# EAGLE library part CC3100R11MRGC (library Common-Parts-Library-Eagle)
CC3100 SimpleLink Wi-Fi and Internet-of-Things solution for MCU Applications 64-VQFN -40 to 85
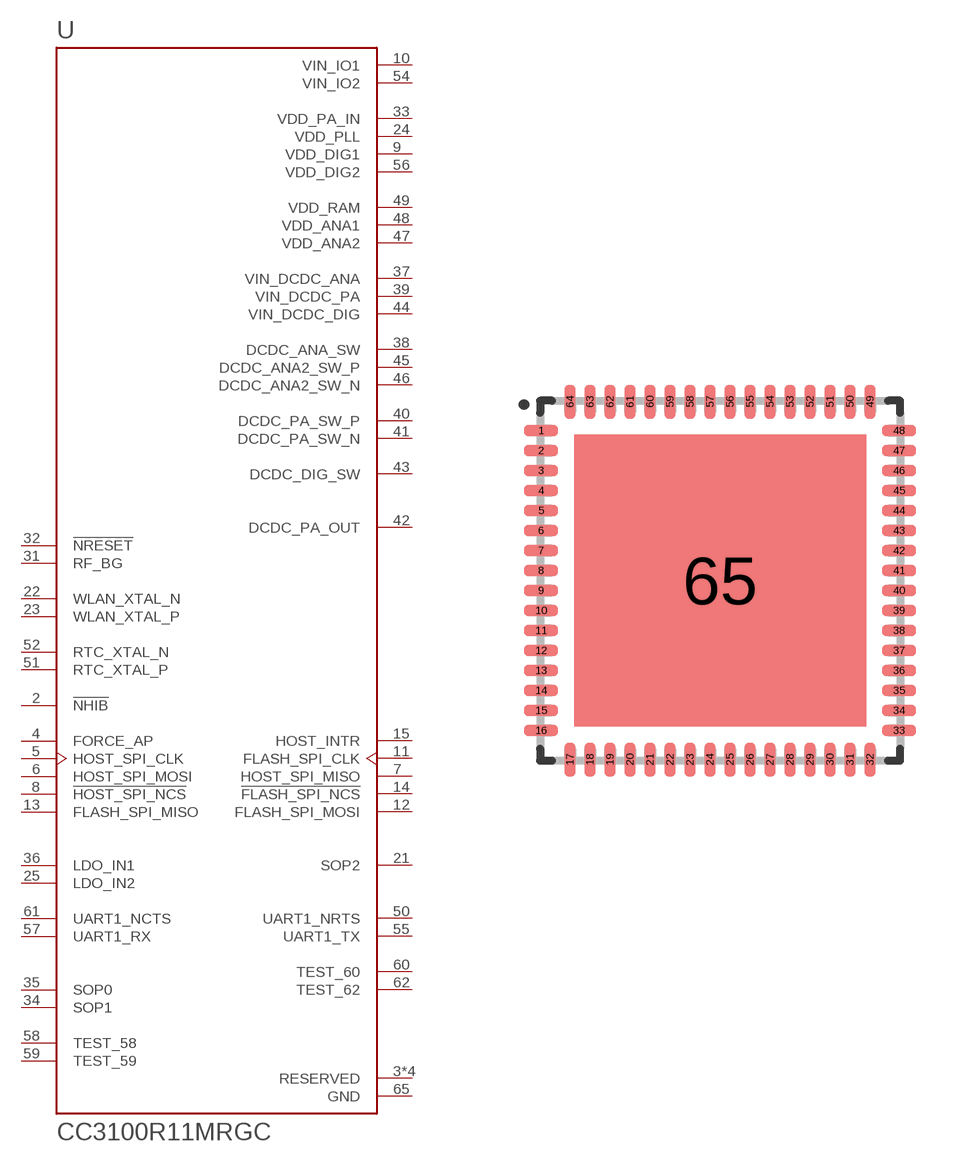
[diagram p53: symbol with the pads of CC3100R11MRGC_QFN50P900X900X100-65N; footprint CC3100R11MRGC_QFN50P900X900X100-65N]

Designator prefix U

## CC3100R11MRGC (MANUFACTURER: Texas Instruments)  [CC3100R11MRGC_QFN50P900X900X100-65N]
2  !NHIB  in
3  RESERVED  pwr
4  FORCE_AP  in
5  HOST_SPI_CLK  in
6  HOST_SPI_MOSI  in
7  HOST_SPI_MISO  out
8  !HOST_SPI_NCS  in
9  VDD_DIG1  pwr
10  VIN_IO1  pwr
11  FLASH_SPI_CLK  out
12  FLASH_SPI_MOSI  out
13  FLASH_SPI_MISO  in
14  !FLASH_SPI_NCS  out
15  HOST_INTR  out
19  RESERVED  pwr
21  SOP2  out
22  WLAN_XTAL_N  in
23  WLAN_XTAL_P  in
24  VDD_PLL  pwr
25  LDO_IN2  in
29  RESERVED  pwr
30  RESERVED  pwr
31  RF_BG  in
32  !NRESET  in
33  VDD_PA_IN  pwr
34  SOP1
35  SOP0
36  LDO_IN1  in
37  VIN_DCDC_ANA  pwr
38  DCDC_ANA_SW  pwr
39  VIN_DCDC_PA  pwr
40  DCDC_PA_SW_P  pwr
41  DCDC_PA_SW_N  pwr
42  DCDC_PA_OUT  out
43  DCDC_DIG_SW  pwr
44  VIN_DCDC_DIG  pwr
45  DCDC_ANA2_SW_P  pwr
46  DCDC_ANA2_SW_N  pwr
47  VDD_ANA2  pwr
48  VDD_ANA1  pwr
49  VDD_RAM  pwr
50  UART1_NRTS  out
51  RTC_XTAL_P  in
52  RTC_XTAL_N  in
54  VIN_IO2  pwr
55  UART1_TX  out
56  VDD_DIG2  pwr
57  UART1_RX  in
58  TEST_58
59  TEST_59
60  TEST_60  out
61  UART1_NCTS  in
62  TEST_62  out
65  GND  pwr

## Footprint CC3100R11MRGC_QFN50P900X900X100-65N (pad centres in mm)
smd 0.85 x 0.28: 1 -4.475,3.75; 2 -4.475,3.25; 3 -4.475,2.75; 4 -4.475,2.25; 5 -4.475,1.75; 6 -4.475,1.25; 7 -4.475,0.75; 8 -4.475,0.25; 9 -4.475,-0.25; 10 -4.475,-0.75; 11 -4.475,-1.25; 12 -4.475,-1.75; 13 -4.475,-2.25; 14 -4.475,-2.75; 15 -4.475,-3.25; 16 -4.475,-3.75; 33 4.475,-3.75; 34 4.475,-3.25; 35 4.475,-2.75; 36 4.475,-2.25; 37 4.475,-1.75; 38 4.475,-1.25; 39 4.475,-0.75; 40 4.475,-0.25; 41 4.475,0.25; 42 4.475,0.75; 43 4.475,1.25; 44 4.475,1.75; 45 4.475,2.25; 46 4.475,2.75; 47 4.475,3.25; 48 4.475,3.75
smd 0.28 x 0.85: 17 -3.75,-4.475; 18 -3.25,-4.475; 19 -2.75,-4.475; 20 -2.25,-4.475; 21 -1.75,-4.475; 22 -1.25,-4.475; 23 -0.75,-4.475; 24 -0.25,-4.475; 25 0.25,-4.475; 26 0.75,-4.475; 27 1.25,-4.475; 28 1.75,-4.475; 29 2.25,-4.475; 30 2.75,-4.475; 31 3.25,-4.475; 32 3.75,-4.475; 49 3.75,4.475; 50 3.25,4.475; 51 2.75,4.475; 52 2.25,4.475; 53 1.75,4.475; 54 1.25,4.475; 55 0.75,4.475; 56 0.25,4.475; 57 -0.25,4.475; 58 -0.75,4.475; 59 -1.25,4.475; 60 -1.75,4.475; 61 -2.25,4.475; 62 -2.75,4.475; 63 -3.25,4.475; 64 -3.75,4.475
smd 7.3 x 7.3: 65 0,0